# EAGLE library part KSZ9031 (library IC_Interface)
Gigabit Ethernet Transceiver with RGMII Support Datasheet <http://ww1.microchip.com/downloads/en/devicedoc/00002117f.pdf>
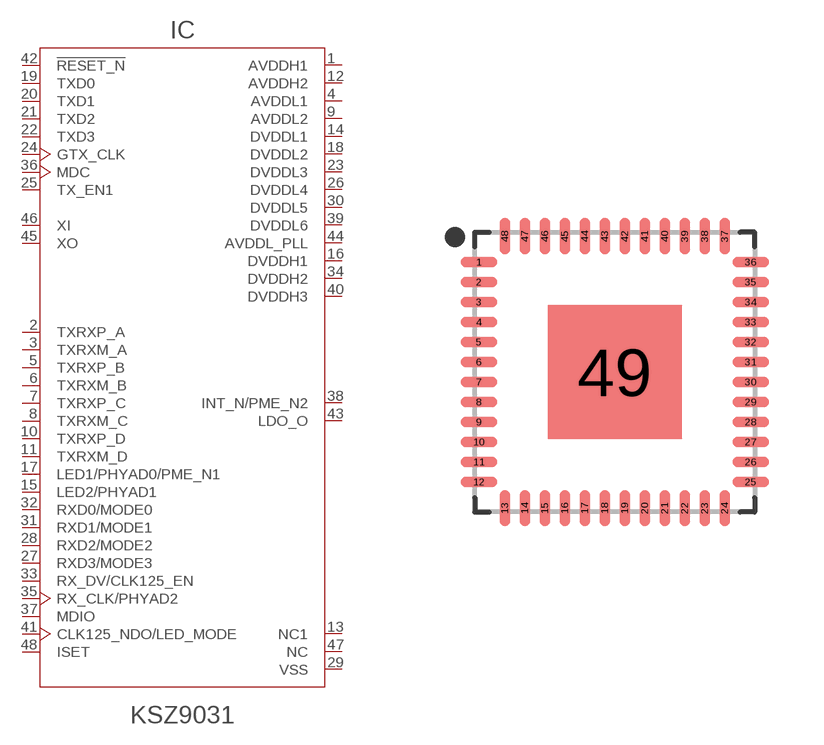
[diagram p0: symbol with the pads of QFN50P700X700X100-49T335; footprint QFN50P700X700X100-49T335]

Designator prefix IC

## KSZ9031_QFN (CATEGORY: IC_Interface; MANUFACTURER: Microchip; MPN: KSZ9031RNXCC; OPERATING_TEMP: 0 to +70°C; PART_STATUS: Active; ROHS_COMPLIANT: RoHS3 Compliant; SUB-CATEGORY: Transceiver; VALUE: KSZ9031)  [QFN50P700X700X100-49T335]
1  AVDDH1  pwr
2  TXRXP_A
3  TXRXM_A
4  AVDDL1  pwr
5  TXRXP_B
6  TXRXM_B
7  TXRXP_C
8  TXRXM_C
9  AVDDL2  pwr
10  TXRXP_D
11  TXRXM_D
12  AVDDH2  pwr
13  NC1  nc
14  DVDDL1  pwr
15  LED2/PHYAD1
16  DVDDH1  pwr
17  LED1/PHYAD0/PME_N1
18  DVDDL2  pwr
19  TXD0  in
20  TXD1  in
21  TXD2  in
22  TXD3  in
23  DVDDL3  pwr
24  GTX_CLK  in
25  TX_EN1  in
26  DVDDL4  pwr
27  RXD3/MODE3
28  RXD2/MODE2
29  VSS  pwr
30  DVDDL5  pwr
31  RXD1/MODE1
32  RXD0/MODE0
33  RX_DV/CLK125_EN
34  DVDDH2  pwr
35  RX_CLK/PHYAD2
36  MDC  in
37  MDIO
38  INT_N/PME_N2  out
39  DVDDL6  pwr
40  DVDDH3  pwr
41  CLK125_NDO/LED_MODE
42  !RESET_N  in
43  LDO_O  out
44  AVDDL_PLL  pwr
45  XO  out
46  XI  in
47  NC  nc
48  ISET

## Footprint QFN50P700X700X100-49T335 (pad centres in mm)
48-QFN, 0.50 mm pitch, 7.00 X 7.00 X 1.00 mm body, 3.35 X 3.35 mm thermal pad 48-pin QFN package with 0.50 mm pitch with body size 7.00 X 7.00 X 1.00 mm and thermal pad size 3.35 X 3.35 mm
smd 0.911 x 0.264: 1 -3.401,2.75; 2 -3.401,2.25; 3 -3.401,1.75; 4 -3.401,1.25; 5 -3.401,0.75; 6 -3.401,0.25; 7 -3.401,-0.25; 8 -3.401,-0.75; 9 -3.401,-1.25; 10 -3.401,-1.75; 11 -3.401,-2.25; 12 -3.401,-2.75; 25 3.401,-2.75; 26 3.401,-2.25; 27 3.401,-1.75; 28 3.401,-1.25; 29 3.401,-0.75; 30 3.401,-0.25; 31 3.401,0.25; 32 3.401,0.75; 33 3.401,1.25; 34 3.401,1.75; 35 3.401,2.25; 36 3.401,2.75
smd 0.264 x 0.911: 13 -2.75,-3.401; 14 -2.25,-3.401; 15 -1.75,-3.401; 16 -1.25,-3.401; 17 -0.75,-3.401; 18 -0.25,-3.401; 19 0.25,-3.401; 20 0.75,-3.401; 21 1.25,-3.401; 22 1.75,-3.401; 23 2.25,-3.401; 24 2.75,-3.401; 37 2.75,3.401; 38 2.25,3.401; 39 1.75,3.401; 40 1.25,3.401; 41 0.75,3.401; 42 0.25,3.401; 43 -0.25,3.401; 44 -0.75,3.401; 45 -1.25,3.401; 46 -1.75,3.401; 47 -2.25,3.401; 48 -2.75,3.401
smd 3.35 x 3.35: 49 0,0